# EAGLE library part UCC5606DP (library UCC5606DP)
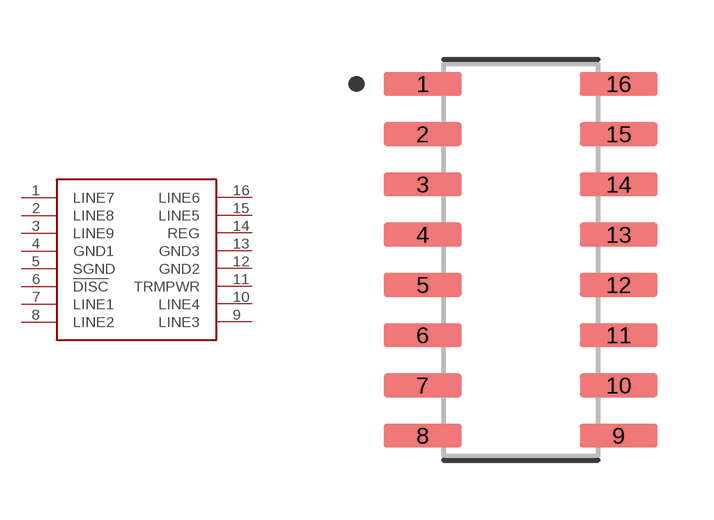
[diagram p0: symbol with the pads of SOIC127P600X175-16N; footprint SOIC127P600X175-16N]

Designator prefix -

## UCC5606DP  [SOIC127P600X175-16N]
1  LINE7
2  LINE8
3  LINE9
4  GND1
5  SGND
6  !DISC
7  LINE1
8  LINE2
9  LINE3
10  LINE4
11  TRMPWR
12  GND2
13  GND3
14  REG
15  LINE5
16  LINE6

## Footprint SOIC127P600X175-16N (pad centres in mm)
smd 1.97 x 0.6: 1 -2.475,4.445; 2 -2.475,3.175; 3 -2.475,1.905; 4 -2.475,0.635; 5 -2.475,-0.635; 6 -2.475,-1.905; 7 -2.475,-3.175; 8 -2.475,-4.445; 9 2.475,-4.445; 10 2.475,-3.175; 11 2.475,-1.905; 12 2.475,-0.635; 13 2.475,0.635; 14 2.475,1.905; 15 2.475,3.175; 16 2.475,4.445